# Altium schematic symbol library SCH - POWER - LINEAR VREG - TI TLV2217-18_KCS_3.SchLib: 1 symbol
Pins are listed as number, name and electrical type; pins without a type are passive.

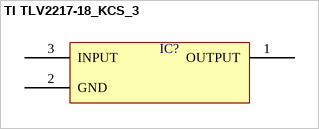
[diagram p0: symbol TI TLV2217-18_KCS_3]

## TI TLV2217-18_KCS_3
designator IC?  (value not drawn)
pins: 1 OUTPUT, 2 GND, 3 INPUT